# Altium integrated library BSP100,135.IntLib: 1 symbol
Pins are listed as number, name and electrical type; pins without a type are passive.

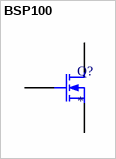
[diagram p0: symbol BSP100]

## BSP100
designator Q?
footprint SOT230P700X180-4N
pins: 1 G, 2 D, 3 S